# Altium footprint library WE-TPB HV.PcbLib: 18 footprints (part 2 of 2)
Each footprint in its own frame and in the unit in brackets; x right, y up, seen from the top. Pads: shape width x height; smd on the part's side, far side on the other; paste and mask are expansions set on the pad; w line width, h text height; cw(c..) or ccw(c..) is an arc to the next point about the centre after c.
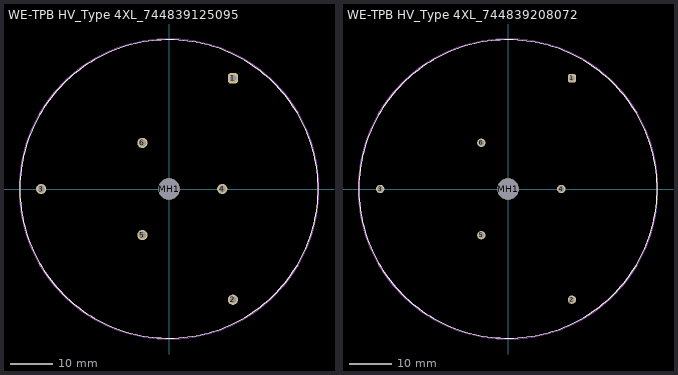
[diagram p1: the footprints below, top view; thin cyan lines are the x and y axes]

## WE-TPB HV_Type 4XL_744839125095 [mm] "Three-Phase Common Mode Power Line Choke, 6-Leads, body diameter 70mm"
height 39
pads (7):
  rrect50% 2.4x2.4 hole 1.6: 1(15,25.981)
  round 2.4 hole 1.6: 2(15,-25.981) 3(-30,0) 4(12.5,0) 5(-6.25,-10.825) 6(-6.25,10.825)
  round 5 hole 5 unplated: MH1(0,0)
Top Overlay:
  circle w0.2: c0,0 r35
Top Designator:
  text ".Designator" at -7.498,-0.5 h1.5
Top Component Outline:
  circle w0.1: c0,0 r35
Top 3D Body:
  circle w0.1: c0,0 r35
Top Courtyard:
  circle w0.05: c0,0 r35.2
  lines w0.05: -0.5,0 0.5,0 ; 0,-0.5 0,0.5
3D body "744839125095.stp": height 37.6, standoff -4.9, extent -34,-30.763 30.742,30.7

## WE-TPB HV_Type 4XL_744839208072 [mm] "Three-Phase Common Mode Power Line Choke, 6-Leads, body diameter 70mm"
height 39
pads (7):
  rrect50% 1.95x1.95 hole 1.3: 1(15,25.981)
  round 1.95 hole 1.3: 2(15,-25.981) 3(-30,0) 4(12.5,0) 5(-6.25,-10.825) 6(-6.25,10.825)
  round 5 hole 5 unplated: MH1(0,0)
Top Overlay:
  circle w0.2: c0,0 r35
Top Designator:
  text ".Designator" at -7.498,-0.5 h1.5
Top Component Outline:
  circle w0.1: c0,0 r35
Top 3D Body:
  circle w0.1: c0,0 r35
Top Courtyard:
  circle w0.05: c0,0 r35.2
  lines w0.05: -0.5,0 0.5,0 ; 0,-0.5 0,0.5
3D body "744839208072.stp": height 37.6, standoff -4.9, extent -34,-30.556 30.565,30.7